# Altium schematic symbol library Audio.SchLib: 4 symbols
Pins are listed as number, name and electrical type; pins without a type are passive.

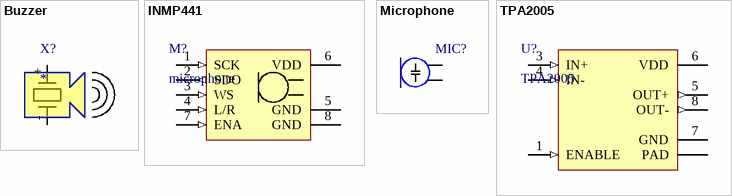
[diagram p0: symbols Buzzer to TPA2005]

## Buzzer
designator X?
footprint BUZZER
pins: +, -

## INMP441
designator M?, comment microphone
I2s microphone
footprint INMP441 (smd i2s microphone)
pins: 1 SCK (in), 2 SDO (out), 3 WS (in), 4 L/R (in), 5 GND (power), 6 VDD (power), 7 ENA (in), 8 GND (power)

## Microphone
designator MIC?, comment Mini MIC Capsule Electret Condenser Microphone  (value not drawn)
Mini MIC Capsule Electret Condenser
footprint Microphone (PCB mount condenser microphones)
pins: 0, 1

## TPA2005
designator U?
1.4-W MONO Filter-Free Class-D Audio Power Amplifier
footprint VSSOP8 (PowerPAD   VSSOP - 1.1 mm max height)
pins: 1 ENABLE (in), 3 IN+ (in), 4 IN- (in), 5 OUT+ (out), 6 VDD (power), 7 GND (power), 8 OUT- (out), PAD (power)